# Altium footprint library SOIC127P600X175-14L.PcbLib: 1 footprints
Each footprint in its own frame and in the unit in brackets; x right, y up, seen from the top. Pads: shape width x height; smd on the part's side, far side on the other; paste and mask are expansions set on the pad; w line width, h text height; cw(c..) or ccw(c..) is an arc to the next point about the centre after c.
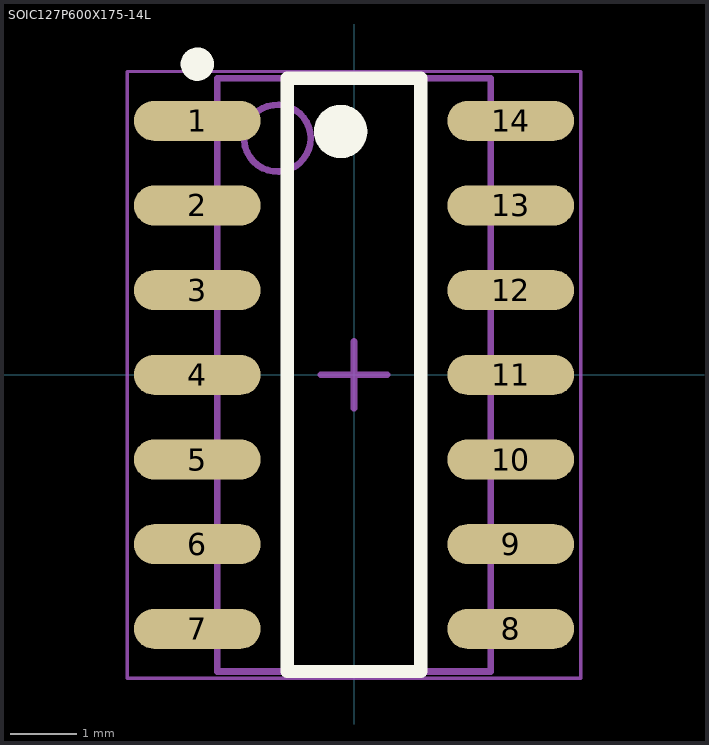
[diagram p0: the footprint, top view; thin cyan lines are the x and y axes]

## SOIC127P600X175-14L [mm] "SOIC, 14-Leads, Body 8.65x3.90mm, Pitch 1.27mm, IPC High Density"
height 1.75
pads (14):
  oval 1.9x0.6 smd: 1(-2.35,3.81) 2(-2.35,2.54) 3(-2.35,1.27) 4(-2.35,0) 5(-2.35,-1.27) 6(-2.35,-2.54) 7(-2.35,-3.81) 8(2.35,-3.81) 9(2.35,-2.54) 10(2.35,-1.27) 11(2.35,0) 12(2.35,1.27) 13(2.35,2.54) 14(2.35,3.81)
Top Overlay:
  circle w0.4: c-0.2,3.65 r0.2
  circle w0.25: c-2.35,4.66 r0.125
  lines w0.2: -1,-4.45 1,-4.45 1,4.45 -1,4.45 -1,-4.45
Mechanical 13:
  circle w0.1: c-1.15,3.55 r0.5
  lines w0.1: -2.05,-4.45 2.05,-4.45 2.05,4.45 -2.05,4.45 -2.05,-4.45
Mechanical 15:
  lines w0.05: -3.4,-4.55 3.4,-4.55 3.4,4.55 -3.4,4.55 -3.4,-4.55
  lines w0.1: -0.5,0 0.5,0 ; 0,-0.5 0,0.5
3D body: height 1.9, standoff 0, extent -3.028,-4.375 3.028,4.375